# Altium schematic symbol library Res_Yageo_MF0207FTE52-10K_eec.SchLib: 1 symbol
Pins are listed as number, name and electrical type; pins without a type are passive.

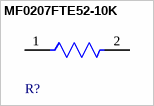
[diagram p0: symbol MF0207FTE52-10K]

## MF0207FTE52-10K
designator R?  (value not drawn)
pins: 1, 2